# EAGLE library part 690207102072 (library WR-MM)
WR-MM Transition Connector Material Properties Insulator Material PBT Insulator Flammability Rating UL94 V-0 Insulator Color Red Contact Material Phosphor Bronze Contact Plating Matte Tin over Nickel Contact Type Stamped Certification cULus Approval E323964 General Information Operating Temperature -40 °C up to +105 °C Pitch 2.54 mm Gender Transition Electrical Properties Working Voltage 250 V (AC) Withstanding Voltage 500 V (AC) Contact Resistance 10 mΩ RISO 1000 MΩ Packaging Properties Packaging :Tube <https://www.we-online.com/components/media/o33156v209%20Multi-WR-MM-690207101072.jpg> Details see: www.we-online.com/en/components/products/MM_TRANSITION_CONNECTOR_69020710XX72 <www.we-online.com/catalog/MM_TRANSITION_CONNECTOR_69020710XX72/?utm_source=eagle_model&utm_medium=description_link&utm_campaign=eisos_eagle> Updated by Ella 2025-02-28 2025 (C) Würth Elektronik
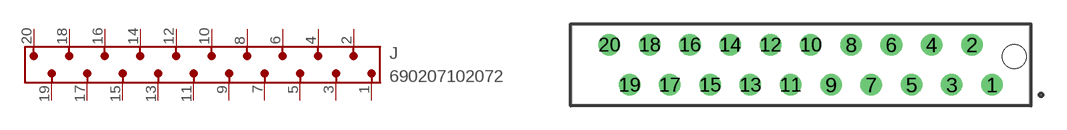
[diagram p13: symbol with the pads of 690207102072; footprint 690207102072]

Designator prefix J

## 690207102072 (DATASHEET-URL: https://www.we-online.com/redexpert/spec/690207102072?ae; GENDER: Transition; IR: 1A; PACKAGING: Tube; PART-NUMBER: 690207102072; PINS: 20; PITCH: 2.54; TYPE: Straight; VALUE: 690207102072)  [690207102072]
1  1  pas
2  2  pas
3  3  pas
4  4  pas
5  5  pas
6  6  pas
7  7  pas
8  8  pas
9  9  pas
10  10  pas
11  11  pas
12  12  pas
13  13  pas
14  14  pas
15  15  pas
16  16  pas
17  17  pas
18  18  pas
19  19  pas
20  20  pas

## Footprint 690207102072 (pad centres in mm)
WR-MM Transition Connector,20 Pins
drill 0.85: 1 12.065,-1.27; 2 10.795,1.27; 3 9.525,-1.27; 4 8.255,1.27; 5 6.985,-1.27; 6 5.715,1.27; 7 4.445,-1.27; 8 3.175,1.27; 9 1.905,-1.27; 10 0.635,1.27; 11 -0.635,-1.27; 12 -1.905,1.27; 13 -3.175,-1.27; 14 -4.445,1.27; 15 -5.715,-1.27; 16 -6.985,1.27; 17 -8.255,-1.27; 18 -9.525,1.27; 19 -10.795,-1.27; 20 -12.065,1.27
hole 1.5 at 13.465,0.53